# Altium integrated library Linear Technology Power Management Energy Harvesting.IntLib: 169 symbols (part 12 of 13)
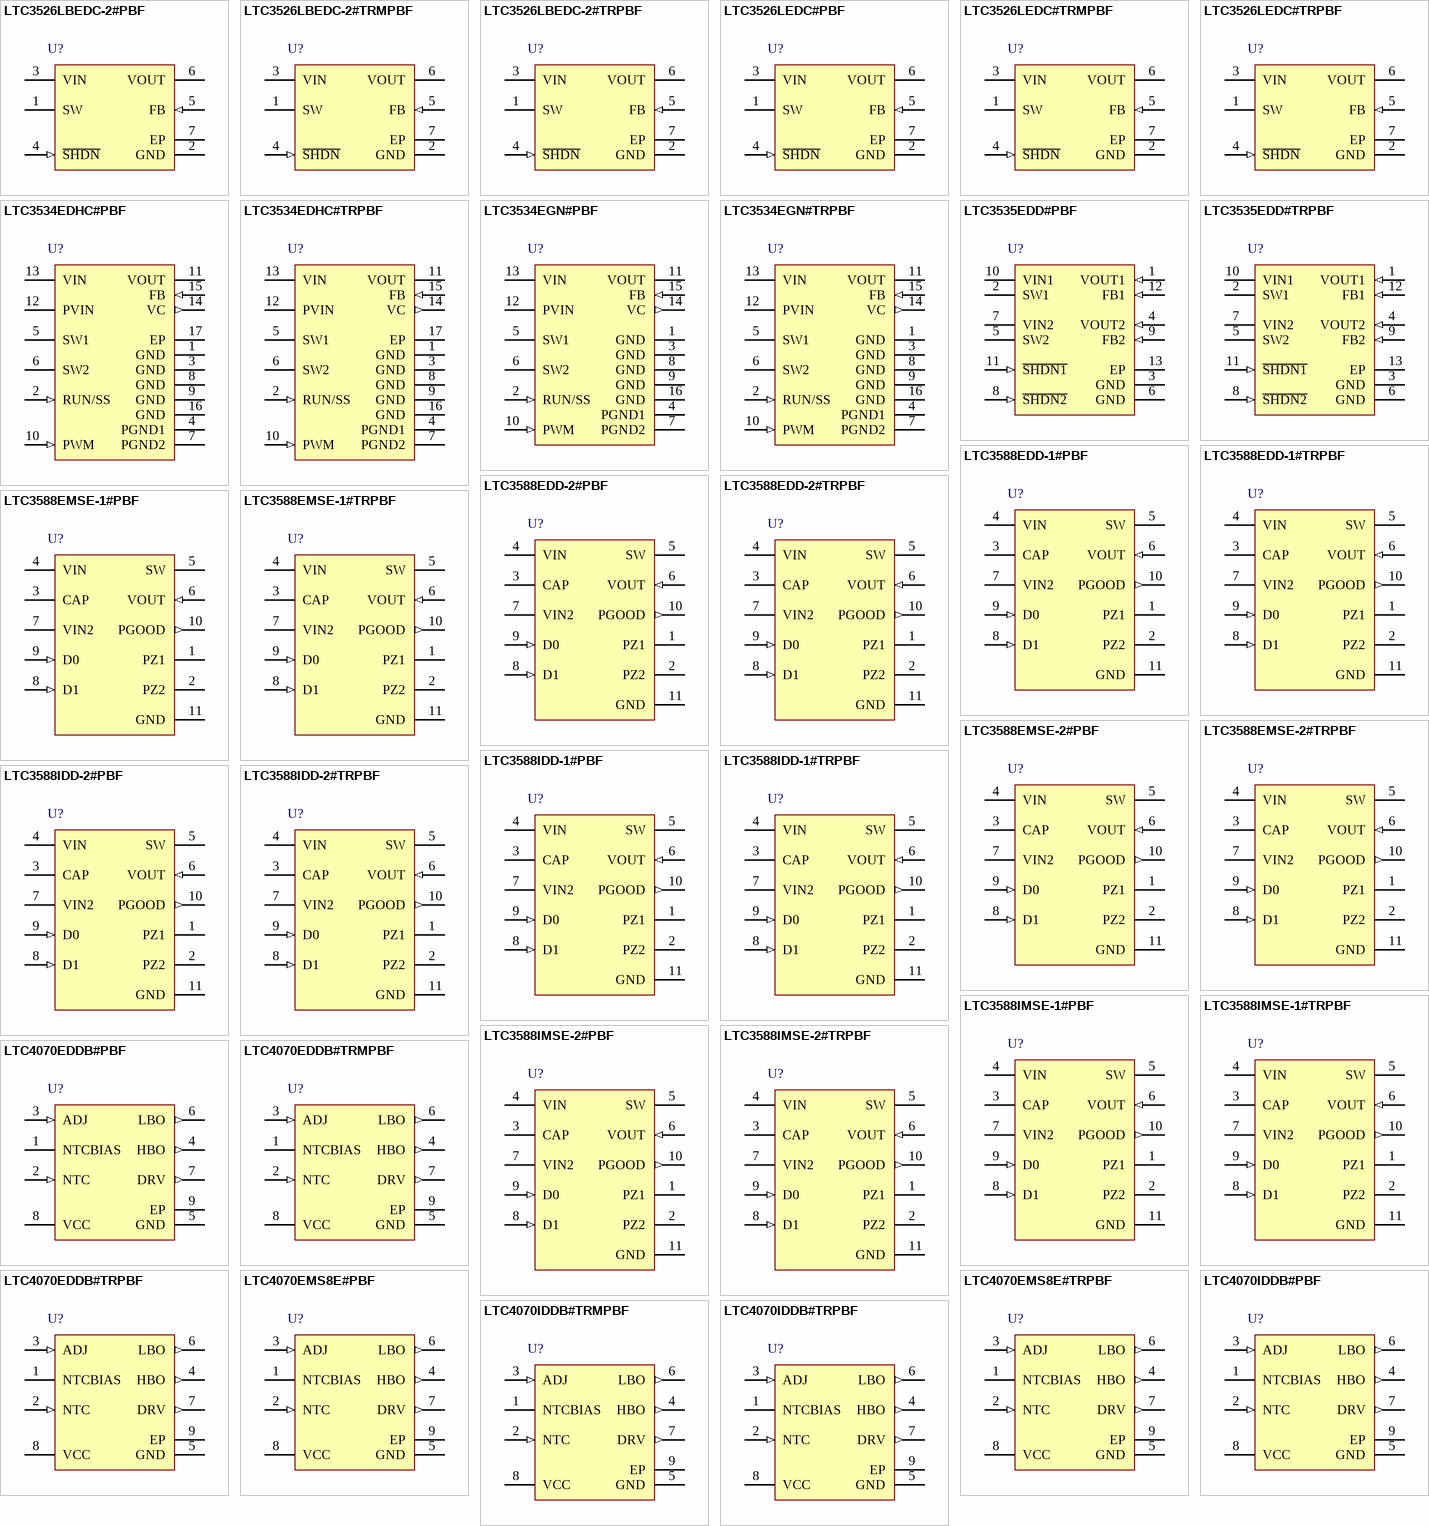
[diagram p16: symbols LTC3526LBEDC-2#PBF to LTC4070IDDB#TRPBF]

## LTC3588IMSE-2#TRPBF
designator U?
Piezoelectric Energy Harvesting Power Supply with 14 V Minimum VIN, 10-pin SOP (MSE-10), -40 to 125 degC, Pb-Free, Tape and Reel; Manufacturer: Linear Technology; PartNumber: LTC3588IMSE-2#TRPBF; Number of Outputs: 1; Topology: Buck; Vin Max(V): 20; Vin Min(V): 14; Vout Max(V): 3.45, 4.1, 4.5, 5; DatasheetVersion: Rev. A; PackageVersion: Rev. I, 05/2013; PackageReference: MSE-10; PackageDescription: 10-Pin Plastic MSOP, Exposed Die Pad, Body 3 x 3 mm, Pitch 0.5 mm; Supplier 1: Digi-Key; Supplier Part Number 1: LTC3588IMSE-2#TRPBF-ND; Energy Source: Piezoelectric; Packing: Tape and Reel; RoHS: TRUE; Mounting Technology: Surface Mount; ComponentLink1Description: Manufacturer URL; ComponentLink1URL: http://www.linear.com/; ComponentLink2Description: Datasheet; ComponentLink2URL: http://cds.linear.com/docs/en/datasheet/35882fa.pdf; ComponentLink3Description: Package Specification; ComponentLink3URL: http://cds.linear.com/docs/en/packaging/05081664_I_MSE.pdf
footprint LT-MSE-10-EDP_N (SOP, 10-Leads, Body 3.1x3.1mm, Pitch 0.5mm, Thermal Pad 1.88x1.68mm, IPC Medium Density)
footprint LT-MSE-10-EDP_L (SOP, 10-Leads, Body 3.1x3.1mm, Pitch 0.5mm, Thermal Pad 1.88x1.68mm, IPC High Density)
footprint LT-MSE-10-EDP_M (SOP, 10-Leads, Body 3.1x3.1mm, Pitch 0.5mm, Thermal Pad 1.88x1.68mm, IPC Low Density)
pins: 1 PZ1 (power) "Input connection for piezoelectric element or other AC source (used in conjunction with PZ2).", 2 PZ2 (power) "Input connection for piezoelectric element or other AC source (used in conjunction with PZ1).", 3 CAP "Internal rail referenced to VIN to serve as gate drive for buck PMOS switch. A 1uF capacitor should be connected between CAP and VIN. This pin is not intended for use as an external system rail.", 4 VIN (power) "Rectified Input Voltage. A capacitor on this pin serves as an energy reservoir and input supply for the buck regulator. The VIN voltage is internally clamped to a maximum of 20V (typical).", 5 SW (power) "Switch Pin for the Buck Switching Regulator. A 22uH or larger inductor should be connected from SW to VOUT.", 6 VOUT (in) "Sense pin used to monitor the output voltage and adjust it through internal feedback.", 7 VIN2 (power) "Internal low voltage rail to serve as gate drive for buck NMOS switch. Also serves as a logic high rail for output voltage select bits D0 and D1. A 4.7uF capacitor should be connected from VIN2 to GND. This pin is not (See Datasheet)", 8 D1 (in) "Output Voltage Select Bit. D1 should be tied high to VIN2 or low to GND to select desired VOUT (see Table 1).", 9 D0 (in) "Output Voltage Select Bit. D0 should be tied high to VIN2 or low to GND to select desired VOUT (see Table 1).", 10 PGOOD (out) "Power good output is logic high when VOUT is above 92% of the target value. The logic high is referenced to the VOUT rail.", 11 GND (power) "Ground. The Exposed Pad should be connected to a continuous ground plane on the second layer of the printed circuit board by several vias directly under the LTC3588-2."

## LTC4070EDDB#PBF
designator U?
Li-Ion / Polymer Shunt Battery Charger System, 8-pin SON (DDB-8), -40 to 125 degC, Pb-Free; Manufacturer: Linear Technology; PartNumber: LTC4070EDDB#PBF; Number of Outputs: 1; DatasheetVersion: Rev. E; PackageVersion: Rev. B, 06/2010; PackageReference: DDB-8; PackageDescription: 8-Pin Plastic DFN, Body 3 x 2 mm, Pitch 0.5 mm; Supplier 1: Farnell; Supplier Part Number 1: 1801171; Supplier 2: Newark; Supplier Part Number 2: 67R4286; RoHS: TRUE; Topology: Shunt Battery Charger; Mounting Technology: Surface Mount; Code_JEDEC: MO-229; ComponentLink1Description: Manufacturer URL; ComponentLink1URL: http://www.linear.com/; ComponentLink2Description: Datasheet; ComponentLink2URL: http://cds.linear.com/docs/en/datasheet/4070fc.pdf; ComponentLink3Description: Package Specification; ComponentLink3URL: http://cds.linear.com/docs/en/packaging/DFN_8_05-08-1702.pdf
footprint LT-DDB-8_V (SON, 8-Leads, Body 3x2mm, Pitch 0.5mm, Thermal Pad 2.2x0.61mm)
pins: 1 NTCBIAS "NTC Bias Pin. Connect a resistor from NTCBIAS to NTC, and a thermistor from NTC to GND. Float NTCBIAS when not in use. Minimize parasitic capacitance on this pin.", 2 NTC (in) "Input to the Negative Temperature Coefficient Thermistor Monitoring Circuit. The NTC pin connects to a negative temperature coefficient thermistor which is typically co-packaged with the battery to determine the temperature (See Datasheet)", 3 ADJ (in) "Float Voltage Adjust Pin. Connect ADJ to GND to program 4.0V float voltage. Disconnect ADJ to program 4.1V float voltage. Connect ADJ to VCC to program 4.2V float voltage. The float voltage is also adjusted by the NTC (See Datasheet)", 4 HBO (out) "High Battery Monitor Output (Active High). HBO is a CMOS output that indicates that the battery is almost fully charged and current is being shunted away from BAT. This pin is driven high when VCC rises to within VHBTH of (See Datasheet)", 5 GND (power) "Ground. The exposed package pad must be connected to PCB ground for rated thermal performance.", 6 LBO (out) "Low Battery Monitor Output (Active High). LBO is a CMOS output that indicates when the battery is discharged below 3.2V or rises above 3.5V. This pin is driven high if VCC < VLBTH, and is driven low if VCC > (VLBTH + VLBHY).", 7 DRV (out) "External Drive Output. Connect to the gate of an external PFET to increase shunt current for applications which require more than 50mA charge current. Minimize capacitance and leakage current on this pin. When not in use, (See Datasheet)", 8 VCC (power) "Input Supply Pin. The input supply voltage is regulated to 4.0V, 4.1V, or 4.2V depending on the ADJ pin state (see the ADJ pin description for more detail). This pin can sink up to 50mA in order to keep the voltage (See Datasheet)", 9 EP (power)

## LTC4070EDDB#TRMPBF
designator U?
Li-Ion / Polymer Shunt Battery Charger System, 8-pin SON (DDB-8), -40 to 125 degC, Pb-Free, Mini Tape and Reel; Manufacturer: Linear Technology; PartNumber: LTC4070EDDB#TRMPBF; Number of Outputs: 1; DatasheetVersion: Rev. E; PackageVersion: Rev. B, 06/2010; PackageReference: DDB-8; PackageDescription: 8-Pin Plastic DFN, Body 3 x 2 mm, Pitch 0.5 mm; Supplier 1: Digi-Key; Supplier Part Number 1: LTC4070EDDB#TRMPBFTR-ND; Supplier 2: Digi-Key; Supplier Part Number 2: LTC4070EDDB#TRMPBFCT-ND; Supplier 3: Digi-Key; Supplier Part Number 3: LTC4070EDDB#TRMPBFDKR-ND; Packing: Mini Tape and Reel; RoHS: TRUE; Topology: Shunt Battery Charger; Mounting Technology: Surface Mount; Code_JEDEC: MO-229; ComponentLink1Description: Manufacturer URL; ComponentLink1URL: http://www.linear.com/; ComponentLink2Description: Datasheet; ComponentLink2URL: http://cds.linear.com/docs/en/datasheet/4070fc.pdf; ComponentLink3Description: Package Specification; ComponentLink3URL: http://cds.linear.com/docs/en/packaging/DFN_8_05-08-1702.pdf
footprint LT-DDB-8_V (SON, 8-Leads, Body 3x2mm, Pitch 0.5mm, Thermal Pad 2.2x0.61mm)
pins: 1 NTCBIAS "NTC Bias Pin. Connect a resistor from NTCBIAS to NTC, and a thermistor from NTC to GND. Float NTCBIAS when not in use. Minimize parasitic capacitance on this pin.", 2 NTC (in) "Input to the Negative Temperature Coefficient Thermistor Monitoring Circuit. The NTC pin connects to a negative temperature coefficient thermistor which is typically co-packaged with the battery to determine the temperature (See Datasheet)", 3 ADJ (in) "Float Voltage Adjust Pin. Connect ADJ to GND to program 4.0V float voltage. Disconnect ADJ to program 4.1V float voltage. Connect ADJ to VCC to program 4.2V float voltage. The float voltage is also adjusted by the NTC (See Datasheet)", 4 HBO (out) "High Battery Monitor Output (Active High). HBO is a CMOS output that indicates that the battery is almost fully charged and current is being shunted away from BAT. This pin is driven high when VCC rises to within VHBTH of (See Datasheet)", 5 GND (power) "Ground. The exposed package pad must be connected to PCB ground for rated thermal performance.", 6 LBO (out) "Low Battery Monitor Output (Active High). LBO is a CMOS output that indicates when the battery is discharged below 3.2V or rises above 3.5V. This pin is driven high if VCC < VLBTH, and is driven low if VCC > (VLBTH + VLBHY).", 7 DRV (out) "External Drive Output. Connect to the gate of an external PFET to increase shunt current for applications which require more than 50mA charge current. Minimize capacitance and leakage current on this pin. When not in use, (See Datasheet)", 8 VCC (power) "Input Supply Pin. The input supply voltage is regulated to 4.0V, 4.1V, or 4.2V depending on the ADJ pin state (see the ADJ pin description for more detail). This pin can sink up to 50mA in order to keep the voltage (See Datasheet)", 9 EP (power)

## LTC4070EDDB#TRPBF
designator U?
Li-Ion / Polymer Shunt Battery Charger System, 8-pin SON (DDB-8), -40 to 125 degC, Pb-Free, Tape and Reel; Manufacturer: Linear Technology; PartNumber: LTC4070EDDB#TRPBF; Number of Outputs: 1; DatasheetVersion: Rev. E; PackageVersion: Rev. B, 06/2010; PackageReference: DDB-8; PackageDescription: 8-Pin Plastic DFN, Body 3 x 2 mm, Pitch 0.5 mm; Supplier 1: Digi-Key; Supplier Part Number 1: LTC4070EDDB#TRPBF-ND; Packing: Tape and Reel; RoHS: TRUE; Topology: Shunt Battery Charger; Mounting Technology: Surface Mount; Code_JEDEC: MO-229; ComponentLink1Description: Manufacturer URL; ComponentLink1URL: http://www.linear.com/; ComponentLink2Description: Datasheet; ComponentLink2URL: http://cds.linear.com/docs/en/datasheet/4070fc.pdf; ComponentLink3Description: Package Specification; ComponentLink3URL: http://cds.linear.com/docs/en/packaging/DFN_8_05-08-1702.pdf
footprint LT-DDB-8_V (SON, 8-Leads, Body 3x2mm, Pitch 0.5mm, Thermal Pad 2.2x0.61mm)
pins: 1 NTCBIAS "NTC Bias Pin. Connect a resistor from NTCBIAS to NTC, and a thermistor from NTC to GND. Float NTCBIAS when not in use. Minimize parasitic capacitance on this pin.", 2 NTC (in) "Input to the Negative Temperature Coefficient Thermistor Monitoring Circuit. The NTC pin connects to a negative temperature coefficient thermistor which is typically co-packaged with the battery to determine the temperature (See Datasheet)", 3 ADJ (in) "Float Voltage Adjust Pin. Connect ADJ to GND to program 4.0V float voltage. Disconnect ADJ to program 4.1V float voltage. Connect ADJ to VCC to program 4.2V float voltage. The float voltage is also adjusted by the NTC (See Datasheet)", 4 HBO (out) "High Battery Monitor Output (Active High). HBO is a CMOS output that indicates that the battery is almost fully charged and current is being shunted away from BAT. This pin is driven high when VCC rises to within VHBTH of (See Datasheet)", 5 GND (power) "Ground. The exposed package pad must be connected to PCB ground for rated thermal performance.", 6 LBO (out) "Low Battery Monitor Output (Active High). LBO is a CMOS output that indicates when the battery is discharged below 3.2V or rises above 3.5V. This pin is driven high if VCC < VLBTH, and is driven low if VCC > (VLBTH + VLBHY).", 7 DRV (out) "External Drive Output. Connect to the gate of an external PFET to increase shunt current for applications which require more than 50mA charge current. Minimize capacitance and leakage current on this pin. When not in use, (See Datasheet)", 8 VCC (power) "Input Supply Pin. The input supply voltage is regulated to 4.0V, 4.1V, or 4.2V depending on the ADJ pin state (see the ADJ pin description for more detail). This pin can sink up to 50mA in order to keep the voltage (See Datasheet)", 9 EP (power)

## LTC4070EMS8E#PBF
designator U?
Li-Ion / Polymer Shunt Battery Charger System, 8-pin SOP (MS8E-8), -40 to 125 degC, Pb-Free; Manufacturer: Linear Technology; PartNumber: LTC4070EMS8E#PBF; Number of Outputs: 1; DatasheetVersion: Rev. E; PackageVersion: Rev. E; PackageReference: MS8E-8; PackageDescription: 8-Pin Plastic MSOP, Exposed Die Pad, Body 3 x 3 mm, Pitch 0.65 mm; Supplier 1: Digi-Key; Supplier Part Number 1: LTC4070EMS8E#PBF-ND; Supplier 2: Farnell; Supplier Part Number 2: 1839141; Supplier 3: Newark; Supplier Part Number 3: 67R4287; RoHS: TRUE; Topology: Shunt Battery Charger; Mounting Technology: Surface Mount; ComponentLink1Description: Manufacturer URL; ComponentLink1URL: http://www.linear.com/; ComponentLink2Description: Datasheet; ComponentLink2URL: http://cds.linear.com/docs/en/datasheet/4070fc.pdf; ComponentLink3Description: Package Specification; ComponentLink3URL: http://cds.linear.com/docs/en/datasheet/4070fc.pdf
footprint LT-MS8E-8-2060X1830TP_N (SOP, 8-Leads, Body 3.1x3.1mm, Pitch 0.65mm, Thermal Pad 2.162x1.932mm, IPC Medium Density)
footprint LT-MS8E-8-2060X1830TP_L (SOP, 8-Leads, Body 3.1x3.1mm, Pitch 0.65mm, Thermal Pad 2.162x1.932mm, IPC High Density)
footprint LT-MS8E-8-2060X1830TP_M (SOP, 8-Leads, Body 3.1x3.1mm, Pitch 0.65mm, Thermal Pad 2.162x1.932mm, IPC Low Density)
pins: 1 NTCBIAS "NTC Bias Pin. Connect a resistor from NTCBIAS to NTC, and a thermistor from NTC to GND. Float NTCBIAS when not in use. Minimize parasitic capacitance on this pin.", 2 NTC (in) "Input to the Negative Temperature Coefficient Thermistor Monitoring Circuit. The NTC pin connects to a negative temperature coefficient thermistor which is typically co-packaged with the battery to determine the temperature (See Datasheet)", 3 ADJ (in) "Float Voltage Adjust Pin. Connect ADJ to GND to program 4.0V float voltage. Disconnect ADJ to program 4.1V float voltage. Connect ADJ to VCC to program 4.2V float voltage. The float voltage is also adjusted by the NTC (See Datasheet)", 4 HBO (out) "High Battery Monitor Output (Active High). HBO is a CMOS output that indicates that the battery is almost fully charged and current is being shunted away from BAT. This pin is driven high when VCC rises to within VHBTH of (See Datasheet)", 5 GND (power) "Ground. The exposed package pad must be connected to PCB ground for rated thermal performance.", 6 LBO (out) "Low Battery Monitor Output (Active High). LBO is a CMOS output that indicates when the battery is discharged below 3.2V or rises above 3.5V. This pin is driven high if VCC < VLBTH, and is driven low if VCC > (VLBTH + VLBHY).", 7 DRV (out) "External Drive Output. Connect to the gate of an external PFET to increase shunt current for applications which require more than 50mA charge current. Minimize capacitance and leakage current on this pin. When not in use, (See Datasheet)", 8 VCC (power) "Input Supply Pin. The input supply voltage is regulated to 4.0V, 4.1V, or 4.2V depending on the ADJ pin state (see the ADJ pin description for more detail). This pin can sink up to 50mA in order to keep the voltage (See Datasheet)", 9 EP (power)

## LTC4070EMS8E#TRPBF
designator U?
Li-Ion / Polymer Shunt Battery Charger System, 8-pin SOP (MS8E-8), -40 to 125 degC, Pb-Free, Tape and Reel; Manufacturer: Linear Technology; PartNumber: LTC4070EMS8E#TRPBF; Number of Outputs: 1; DatasheetVersion: Rev. E; PackageVersion: Rev. E; PackageReference: MS8E-8; PackageDescription: 8-Pin Plastic MSOP, Exposed Die Pad, Body 3 x 3 mm, Pitch 0.65 mm; Supplier 1: Digi-Key; Supplier Part Number 1: LTC4070EMS8E#TRPBF-ND; Packing: Tape and Reel; RoHS: TRUE; Topology: Shunt Battery Charger; Mounting Technology: Surface Mount; ComponentLink1Description: Manufacturer URL; ComponentLink1URL: http://www.linear.com/; ComponentLink2Description: Datasheet; ComponentLink2URL: http://cds.linear.com/docs/en/datasheet/4070fc.pdf; ComponentLink3Description: Package Specification; ComponentLink3URL: http://cds.linear.com/docs/en/datasheet/4070fc.pdf
footprint LT-MS8E-8-2060X1830TP_N (SOP, 8-Leads, Body 3.1x3.1mm, Pitch 0.65mm, Thermal Pad 2.162x1.932mm, IPC Medium Density)
footprint LT-MS8E-8-2060X1830TP_L (SOP, 8-Leads, Body 3.1x3.1mm, Pitch 0.65mm, Thermal Pad 2.162x1.932mm, IPC High Density)
footprint LT-MS8E-8-2060X1830TP_M (SOP, 8-Leads, Body 3.1x3.1mm, Pitch 0.65mm, Thermal Pad 2.162x1.932mm, IPC Low Density)
pins: 1 NTCBIAS "NTC Bias Pin. Connect a resistor from NTCBIAS to NTC, and a thermistor from NTC to GND. Float NTCBIAS when not in use. Minimize parasitic capacitance on this pin.", 2 NTC (in) "Input to the Negative Temperature Coefficient Thermistor Monitoring Circuit. The NTC pin connects to a negative temperature coefficient thermistor which is typically co-packaged with the battery to determine the temperature (See Datasheet)", 3 ADJ (in) "Float Voltage Adjust Pin. Connect ADJ to GND to program 4.0V float voltage. Disconnect ADJ to program 4.1V float voltage. Connect ADJ to VCC to program 4.2V float voltage. The float voltage is also adjusted by the NTC (See Datasheet)", 4 HBO (out) "High Battery Monitor Output (Active High). HBO is a CMOS output that indicates that the battery is almost fully charged and current is being shunted away from BAT. This pin is driven high when VCC rises to within VHBTH of (See Datasheet)", 5 GND (power) "Ground. The exposed package pad must be connected to PCB ground for rated thermal performance.", 6 LBO (out) "Low Battery Monitor Output (Active High). LBO is a CMOS output that indicates when the battery is discharged below 3.2V or rises above 3.5V. This pin is driven high if VCC < VLBTH, and is driven low if VCC > (VLBTH + VLBHY).", 7 DRV (out) "External Drive Output. Connect to the gate of an external PFET to increase shunt current for applications which require more than 50mA charge current. Minimize capacitance and leakage current on this pin. When not in use, (See Datasheet)", 8 VCC (power) "Input Supply Pin. The input supply voltage is regulated to 4.0V, 4.1V, or 4.2V depending on the ADJ pin state (see the ADJ pin description for more detail). This pin can sink up to 50mA in order to keep the voltage (See Datasheet)", 9 EP (power)

## LTC4070IDDB#PBF
designator U?
Li-Ion / Polymer Shunt Battery Charger System, 8-pin SON (DDB-8), -40 to 125 degC, Pb-Free; Manufacturer: Linear Technology; PartNumber: LTC4070IDDB#PBF; Number of Outputs: 1; DatasheetVersion: Rev. E; PackageVersion: Rev. B, 06/2010; PackageReference: DDB-8; PackageDescription: 8-Pin Plastic DFN, Body 3 x 2 mm, Pitch 0.5 mm; RoHS: TRUE; Topology: Shunt Battery Charger; Mounting Technology: Surface Mount; Code_JEDEC: MO-229; ComponentLink1Description: Manufacturer URL; ComponentLink1URL: http://www.linear.com/; ComponentLink2Description: Datasheet; ComponentLink2URL: http://cds.linear.com/docs/en/datasheet/4070fc.pdf; ComponentLink3Description: Package Specification; ComponentLink3URL: http://cds.linear.com/docs/en/packaging/DFN_8_05-08-1702.pdf
footprint LT-DDB-8_V (SON, 8-Leads, Body 3x2mm, Pitch 0.5mm, Thermal Pad 2.2x0.61mm)
pins: 1 NTCBIAS "NTC Bias Pin. Connect a resistor from NTCBIAS to NTC, and a thermistor from NTC to GND. Float NTCBIAS when not in use. Minimize parasitic capacitance on this pin.", 2 NTC (in) "Input to the Negative Temperature Coefficient Thermistor Monitoring Circuit. The NTC pin connects to a negative temperature coefficient thermistor which is typically co-packaged with the battery to determine the temperature (See Datasheet)", 3 ADJ (in) "Float Voltage Adjust Pin. Connect ADJ to GND to program 4.0V float voltage. Disconnect ADJ to program 4.1V float voltage. Connect ADJ to VCC to program 4.2V float voltage. The float voltage is also adjusted by the NTC (See Datasheet)", 4 HBO (out) "High Battery Monitor Output (Active High). HBO is a CMOS output that indicates that the battery is almost fully charged and current is being shunted away from BAT. This pin is driven high when VCC rises to within VHBTH of (See Datasheet)", 5 GND (power) "Ground. The exposed package pad must be connected to PCB ground for rated thermal performance.", 6 LBO (out) "Low Battery Monitor Output (Active High). LBO is a CMOS output that indicates when the battery is discharged below 3.2V or rises above 3.5V. This pin is driven high if VCC < VLBTH, and is driven low if VCC > (VLBTH + VLBHY).", 7 DRV (out) "External Drive Output. Connect to the gate of an external PFET to increase shunt current for applications which require more than 50mA charge current. Minimize capacitance and leakage current on this pin. When not in use, (See Datasheet)", 8 VCC (power) "Input Supply Pin. The input supply voltage is regulated to 4.0V, 4.1V, or 4.2V depending on the ADJ pin state (see the ADJ pin description for more detail). This pin can sink up to 50mA in order to keep the voltage (See Datasheet)", 9 EP (power)

## LTC4070IDDB#TRMPBF
designator U?
Li-Ion / Polymer Shunt Battery Charger System, 8-pin SON (DDB-8), -40 to 125 degC, Pb-Free, Mini Tape and Reel; Manufacturer: Linear Technology; PartNumber: LTC4070IDDB#TRMPBF; Number of Outputs: 1; DatasheetVersion: Rev. E; PackageVersion: Rev. B, 06/2010; PackageReference: DDB-8; PackageDescription: 8-Pin Plastic DFN, Body 3 x 2 mm, Pitch 0.5 mm; Supplier 1: Digi-Key; Supplier Part Number 1: LTC4070IDDB#TRMPBF-ND; Packing: Mini Tape and Reel; RoHS: TRUE; Topology: Shunt Battery Charger; Mounting Technology: Surface Mount; Code_JEDEC: MO-229; ComponentLink1Description: Manufacturer URL; ComponentLink1URL: http://www.linear.com/; ComponentLink2Description: Datasheet; ComponentLink2URL: http://cds.linear.com/docs/en/datasheet/4070fc.pdf; ComponentLink3Description: Package Specification; ComponentLink3URL: http://cds.linear.com/docs/en/packaging/DFN_8_05-08-1702.pdf
footprint LT-DDB-8_V (SON, 8-Leads, Body 3x2mm, Pitch 0.5mm, Thermal Pad 2.2x0.61mm)
pins: 1 NTCBIAS "NTC Bias Pin. Connect a resistor from NTCBIAS to NTC, and a thermistor from NTC to GND. Float NTCBIAS when not in use. Minimize parasitic capacitance on this pin.", 2 NTC (in) "Input to the Negative Temperature Coefficient Thermistor Monitoring Circuit. The NTC pin connects to a negative temperature coefficient thermistor which is typically co-packaged with the battery to determine the temperature (See Datasheet)", 3 ADJ (in) "Float Voltage Adjust Pin. Connect ADJ to GND to program 4.0V float voltage. Disconnect ADJ to program 4.1V float voltage. Connect ADJ to VCC to program 4.2V float voltage. The float voltage is also adjusted by the NTC (See Datasheet)", 4 HBO (out) "High Battery Monitor Output (Active High). HBO is a CMOS output that indicates that the battery is almost fully charged and current is being shunted away from BAT. This pin is driven high when VCC rises to within VHBTH of (See Datasheet)", 5 GND (power) "Ground. The exposed package pad must be connected to PCB ground for rated thermal performance.", 6 LBO (out) "Low Battery Monitor Output (Active High). LBO is a CMOS output that indicates when the battery is discharged below 3.2V or rises above 3.5V. This pin is driven high if VCC < VLBTH, and is driven low if VCC > (VLBTH + VLBHY).", 7 DRV (out) "External Drive Output. Connect to the gate of an external PFET to increase shunt current for applications which require more than 50mA charge current. Minimize capacitance and leakage current on this pin. When not in use, (See Datasheet)", 8 VCC (power) "Input Supply Pin. The input supply voltage is regulated to 4.0V, 4.1V, or 4.2V depending on the ADJ pin state (see the ADJ pin description for more detail). This pin can sink up to 50mA in order to keep the voltage (See Datasheet)", 9 EP (power)

## LTC4070IDDB#TRPBF
designator U?
Li-Ion / Polymer Shunt Battery Charger System, 8-pin SON (DDB-8), -40 to 125 degC, Pb-Free, Tape and Reel; Manufacturer: Linear Technology; PartNumber: LTC4070IDDB#TRPBF; Number of Outputs: 1; DatasheetVersion: Rev. E; PackageVersion: Rev. B, 06/2010; PackageReference: DDB-8; PackageDescription: 8-Pin Plastic DFN, Body 3 x 2 mm, Pitch 0.5 mm; Supplier 1: Digi-Key; Supplier Part Number 1: LTC4070IDDB#TRPBF-ND; Packing: Tape and Reel; RoHS: TRUE; Topology: Shunt Battery Charger; Mounting Technology: Surface Mount; Code_JEDEC: MO-229; ComponentLink1Description: Manufacturer URL; ComponentLink1URL: http://www.linear.com/; ComponentLink2Description: Datasheet; ComponentLink2URL: http://cds.linear.com/docs/en/datasheet/4070fc.pdf; ComponentLink3Description: Package Specification; ComponentLink3URL: http://cds.linear.com/docs/en/packaging/DFN_8_05-08-1702.pdf
footprint LT-DDB-8_V (SON, 8-Leads, Body 3x2mm, Pitch 0.5mm, Thermal Pad 2.2x0.61mm)
pins: 1 NTCBIAS "NTC Bias Pin. Connect a resistor from NTCBIAS to NTC, and a thermistor from NTC to GND. Float NTCBIAS when not in use. Minimize parasitic capacitance on this pin.", 2 NTC (in) "Input to the Negative Temperature Coefficient Thermistor Monitoring Circuit. The NTC pin connects to a negative temperature coefficient thermistor which is typically co-packaged with the battery to determine the temperature (See Datasheet)", 3 ADJ (in) "Float Voltage Adjust Pin. Connect ADJ to GND to program 4.0V float voltage. Disconnect ADJ to program 4.1V float voltage. Connect ADJ to VCC to program 4.2V float voltage. The float voltage is also adjusted by the NTC (See Datasheet)", 4 HBO (out) "High Battery Monitor Output (Active High). HBO is a CMOS output that indicates that the battery is almost fully charged and current is being shunted away from BAT. This pin is driven high when VCC rises to within VHBTH of (See Datasheet)", 5 GND (power) "Ground. The exposed package pad must be connected to PCB ground for rated thermal performance.", 6 LBO (out) "Low Battery Monitor Output (Active High). LBO is a CMOS output that indicates when the battery is discharged below 3.2V or rises above 3.5V. This pin is driven high if VCC < VLBTH, and is driven low if VCC > (VLBTH + VLBHY).", 7 DRV (out) "External Drive Output. Connect to the gate of an external PFET to increase shunt current for applications which require more than 50mA charge current. Minimize capacitance and leakage current on this pin. When not in use, (See Datasheet)", 8 VCC (power) "Input Supply Pin. The input supply voltage is regulated to 4.0V, 4.1V, or 4.2V depending on the ADJ pin state (see the ADJ pin description for more detail). This pin can sink up to 50mA in order to keep the voltage (See Datasheet)", 9 EP (power)

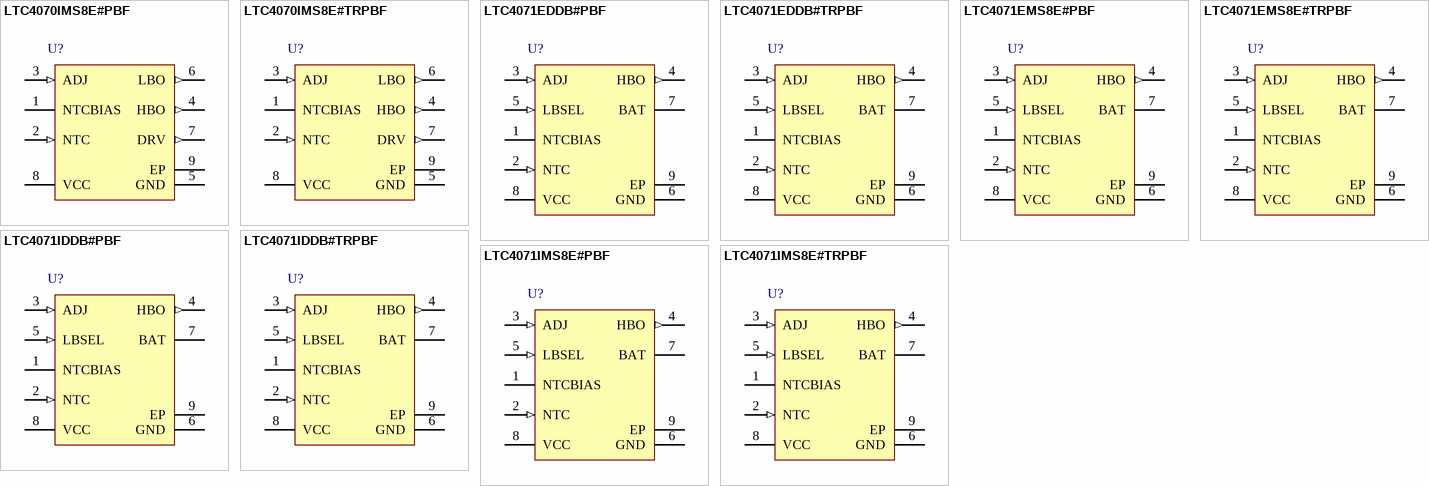
[diagram p5: symbols LTC4070IMS8E#PBF to LTC4071IMS8E#TRPBF]

## LTC4070IMS8E#PBF
designator U?
Li-Ion / Polymer Shunt Battery Charger System, 8-pin SOP (MS8E-8), -40 to 125 degC, Pb-Free; Manufacturer: Linear Technology; PartNumber: LTC4070IMS8E#PBF; Number of Outputs: 1; DatasheetVersion: Rev. E; PackageVersion: Rev. E; PackageReference: MS8E-8; PackageDescription: 8-Pin Plastic MSOP, Exposed Die Pad, Body 3 x 3 mm, Pitch 0.65 mm; Supplier 1: Digi-Key; Supplier Part Number 1: LTC4070IMS8E#PBF-ND; RoHS: TRUE; Topology: Shunt Battery Charger; Mounting Technology: Surface Mount; ComponentLink1Description: Manufacturer URL; ComponentLink1URL: http://www.linear.com/; ComponentLink2Description: Datasheet; ComponentLink2URL: http://cds.linear.com/docs/en/datasheet/4070fc.pdf; ComponentLink3Description: Package Specification; ComponentLink3URL: http://cds.linear.com/docs/en/datasheet/4070fc.pdf
footprint LT-MS8E-8-2060X1830TP_N (SOP, 8-Leads, Body 3.1x3.1mm, Pitch 0.65mm, Thermal Pad 2.162x1.932mm, IPC Medium Density)
footprint LT-MS8E-8-2060X1830TP_L (SOP, 8-Leads, Body 3.1x3.1mm, Pitch 0.65mm, Thermal Pad 2.162x1.932mm, IPC High Density)
footprint LT-MS8E-8-2060X1830TP_M (SOP, 8-Leads, Body 3.1x3.1mm, Pitch 0.65mm, Thermal Pad 2.162x1.932mm, IPC Low Density)
pins: 1 NTCBIAS "NTC Bias Pin. Connect a resistor from NTCBIAS to NTC, and a thermistor from NTC to GND. Float NTCBIAS when not in use. Minimize parasitic capacitance on this pin.", 2 NTC (in) "Input to the Negative Temperature Coefficient Thermistor Monitoring Circuit. The NTC pin connects to a negative temperature coefficient thermistor which is typically co-packaged with the battery to determine the temperature (See Datasheet)", 3 ADJ (in) "Float Voltage Adjust Pin. Connect ADJ to GND to program 4.0V float voltage. Disconnect ADJ to program 4.1V float voltage. Connect ADJ to VCC to program 4.2V float voltage. The float voltage is also adjusted by the NTC (See Datasheet)", 4 HBO (out) "High Battery Monitor Output (Active High). HBO is a CMOS output that indicates that the battery is almost fully charged and current is being shunted away from BAT. This pin is driven high when VCC rises to within VHBTH of (See Datasheet)", 5 GND (power) "Ground. The exposed package pad must be connected to PCB ground for rated thermal performance.", 6 LBO (out) "Low Battery Monitor Output (Active High). LBO is a CMOS output that indicates when the battery is discharged below 3.2V or rises above 3.5V. This pin is driven high if VCC < VLBTH, and is driven low if VCC > (VLBTH + VLBHY).", 7 DRV (out) "External Drive Output. Connect to the gate of an external PFET to increase shunt current for applications which require more than 50mA charge current. Minimize capacitance and leakage current on this pin. When not in use, (See Datasheet)", 8 VCC (power) "Input Supply Pin. The input supply voltage is regulated to 4.0V, 4.1V, or 4.2V depending on the ADJ pin state (see the ADJ pin description for more detail). This pin can sink up to 50mA in order to keep the voltage (See Datasheet)", 9 EP (power)

## LTC4070IMS8E#TRPBF
designator U?
Li-Ion / Polymer Shunt Battery Charger System, 8-pin SOP (MS8E-8), -40 to 125 degC, Pb-Free, Tape and Reel; Manufacturer: Linear Technology; PartNumber: LTC4070IMS8E#TRPBF; Number of Outputs: 1; DatasheetVersion: Rev. E; PackageVersion: Rev. E; PackageReference: MS8E-8; PackageDescription: 8-Pin Plastic MSOP, Exposed Die Pad, Body 3 x 3 mm, Pitch 0.65 mm; Supplier 1: Digi-Key; Supplier Part Number 1: LTC4070IMS8E#TRPBF-ND; Packing: Tape and Reel; RoHS: TRUE; Topology: Shunt Battery Charger; Mounting Technology: Surface Mount; ComponentLink1Description: Manufacturer URL; ComponentLink1URL: http://www.linear.com/; ComponentLink2Description: Datasheet; ComponentLink2URL: http://cds.linear.com/docs/en/datasheet/4070fc.pdf; ComponentLink3Description: Package Specification; ComponentLink3URL: http://cds.linear.com/docs/en/datasheet/4070fc.pdf
footprint LT-MS8E-8-2060X1830TP_N (SOP, 8-Leads, Body 3.1x3.1mm, Pitch 0.65mm, Thermal Pad 2.162x1.932mm, IPC Medium Density)
footprint LT-MS8E-8-2060X1830TP_L (SOP, 8-Leads, Body 3.1x3.1mm, Pitch 0.65mm, Thermal Pad 2.162x1.932mm, IPC High Density)
footprint LT-MS8E-8-2060X1830TP_M (SOP, 8-Leads, Body 3.1x3.1mm, Pitch 0.65mm, Thermal Pad 2.162x1.932mm, IPC Low Density)
pins: 1 NTCBIAS "NTC Bias Pin. Connect a resistor from NTCBIAS to NTC, and a thermistor from NTC to GND. Float NTCBIAS when not in use. Minimize parasitic capacitance on this pin.", 2 NTC (in) "Input to the Negative Temperature Coefficient Thermistor Monitoring Circuit. The NTC pin connects to a negative temperature coefficient thermistor which is typically co-packaged with the battery to determine the temperature (See Datasheet)", 3 ADJ (in) "Float Voltage Adjust Pin. Connect ADJ to GND to program 4.0V float voltage. Disconnect ADJ to program 4.1V float voltage. Connect ADJ to VCC to program 4.2V float voltage. The float voltage is also adjusted by the NTC (See Datasheet)", 4 HBO (out) "High Battery Monitor Output (Active High). HBO is a CMOS output that indicates that the battery is almost fully charged and current is being shunted away from BAT. This pin is driven high when VCC rises to within VHBTH of (See Datasheet)", 5 GND (power) "Ground. The exposed package pad must be connected to PCB ground for rated thermal performance.", 6 LBO (out) "Low Battery Monitor Output (Active High). LBO is a CMOS output that indicates when the battery is discharged below 3.2V or rises above 3.5V. This pin is driven high if VCC < VLBTH, and is driven low if VCC > (VLBTH + VLBHY).", 7 DRV (out) "External Drive Output. Connect to the gate of an external PFET to increase shunt current for applications which require more than 50mA charge current. Minimize capacitance and leakage current on this pin. When not in use, (See Datasheet)", 8 VCC (power) "Input Supply Pin. The input supply voltage is regulated to 4.0V, 4.1V, or 4.2V depending on the ADJ pin state (see the ADJ pin description for more detail). This pin can sink up to 50mA in order to keep the voltage (See Datasheet)", 9 EP (power)

## LTC4071EDDB#PBF
designator U?
Li-Ion / Polymer Shunt Battery Charger System with Low Battery Disconnect, 8-pin SON (DDB-8), -40 to 125 degC, Pb-Free; Manufacturer: Linear Technology; PartNumber: LTC4071EDDB#PBF; Number of Outputs: 1; DatasheetVersion: Rev. C; PackageVersion: Rev. B, 06/2010; PackageReference: DDB-8; PackageDescription: 8-Pin Plastic DFN, Body 3 x 2 mm, Pitch 0.5 mm; RoHS: TRUE; Topology: Shunt Battery Charger; Mounting Technology: Surface Mount; Code_JEDEC: MO-229; ComponentLink1Description: Manufacturer URL; ComponentLink1URL: http://www.linear.com/; ComponentLink2Description: Datasheet; ComponentLink2URL: http://cds.linear.com/docs/en/datasheet/4071fc.pdf; ComponentLink3Description: Package Specification; ComponentLink3URL: http://cds.linear.com/docs/en/packaging/DFN_8_05-08-1702.pdf
footprint LT-DDB-8_V (SON, 8-Leads, Body 3x2mm, Pitch 0.5mm, Thermal Pad 2.2x0.61mm)
pins: 1 NTCBIAS "NTC Bias Pin. Connect a resistor from NTCBIAS to NTC, and a thermistor from NTC to GND. Float NTCBIAS when not in use. Minimize parasitic capacitance on this pin.", 2 NTC (in) "Input to the Negative Temperature Coefficient Thermistor Monitoring Circuit. The NTC pin connects to a negative temperature coefficient thermistor which is typically co-packaged with the battery to determine the temperature (See Datasheet)", 3 ADJ (in) "Float Voltage Adjust Pin. Connect ADJ to GND to program 4.0V float voltage. Disconnect ADJ to program 4.1V float voltage. Connect ADJ to VCC to program 4.2V float voltage. The float voltage is also adjusted by the NTC (See Datasheet)", 4 HBO (out) "High Battery Monitor Output (Active High). HBO is a CMOS output that indicates that the battery is almost fully charged and current is being shunted away from BAT. This pin is driven high when VCC rises to within VHBTH of (See Datasheet)", 5 LBSEL (in) "Low Battery Disconnect Select Pin. Connect LBSEL to GND to select a low battery disconnect level of 3.2V, connect LBSEL to VCC to select a low battery disconnect level of 2.7V. Do not float.", 6 GND (power) "Ground. The exposed package pad has no internal electrical connection but must be connected to PCB ground for maximum heat transfer.", 7 BAT (power) "Battery Pin. Battery charge current is sourced from VCC through this pin when an external supply is present. BAT supplies current to VCC from this pin when no other source of power is available. If BAT falls below VLBD this (See Datasheet)", 8 VCC (power) "Input Supply Pin. Attach system load to this pin. The input supply voltage is regulated to 4.0V, 4.1V, or 4.2V depending on the ADJ pin state (see the ADJ pin description for more detail). This pin can sink up to 50mA in (See Datasheet)", 9 EP (power) "Ground. The exposed package pad has no internal electrical connection but must be connected to PCB ground for maximum heat transfer."

## LTC4071EDDB#TRPBF
designator U?
Li-Ion / Polymer Shunt Battery Charger System with Low Battery Disconnect, 8-pin SON (DDB-8), -40 to 125 degC, Pb-Free, Tape and Reel; Manufacturer: Linear Technology; PartNumber: LTC4071EDDB#TRPBF; Number of Outputs: 1; DatasheetVersion: Rev. C; PackageVersion: Rev. B, 06/2010; PackageReference: DDB-8; PackageDescription: 8-Pin Plastic DFN, Body 3 x 2 mm, Pitch 0.5 mm; Supplier 1: Digi-Key; Supplier Part Number 1: LTC4071EDDB#TRPBF-ND; Packing: Tape and Reel; RoHS: TRUE; Topology: Shunt Battery Charger; Mounting Technology: Surface Mount; Code_JEDEC: MO-229; ComponentLink1Description: Manufacturer URL; ComponentLink1URL: http://www.linear.com/; ComponentLink2Description: Datasheet; ComponentLink2URL: http://cds.linear.com/docs/en/datasheet/4071fc.pdf; ComponentLink3Description: Package Specification; ComponentLink3URL: http://cds.linear.com/docs/en/packaging/DFN_8_05-08-1702.pdf
footprint LT-DDB-8_V (SON, 8-Leads, Body 3x2mm, Pitch 0.5mm, Thermal Pad 2.2x0.61mm)
pins: 1 NTCBIAS "NTC Bias Pin. Connect a resistor from NTCBIAS to NTC, and a thermistor from NTC to GND. Float NTCBIAS when not in use. Minimize parasitic capacitance on this pin.", 2 NTC (in) "Input to the Negative Temperature Coefficient Thermistor Monitoring Circuit. The NTC pin connects to a negative temperature coefficient thermistor which is typically co-packaged with the battery to determine the temperature (See Datasheet)", 3 ADJ (in) "Float Voltage Adjust Pin. Connect ADJ to GND to program 4.0V float voltage. Disconnect ADJ to program 4.1V float voltage. Connect ADJ to VCC to program 4.2V float voltage. The float voltage is also adjusted by the NTC (See Datasheet)", 4 HBO (out) "High Battery Monitor Output (Active High). HBO is a CMOS output that indicates that the battery is almost fully charged and current is being shunted away from BAT. This pin is driven high when VCC rises to within VHBTH of (See Datasheet)", 5 LBSEL (in) "Low Battery Disconnect Select Pin. Connect LBSEL to GND to select a low battery disconnect level of 3.2V, connect LBSEL to VCC to select a low battery disconnect level of 2.7V. Do not float.", 6 GND (power) "Ground. The exposed package pad has no internal electrical connection but must be connected to PCB ground for maximum heat transfer.", 7 BAT (power) "Battery Pin. Battery charge current is sourced from VCC through this pin when an external supply is present. BAT supplies current to VCC from this pin when no other source of power is available. If BAT falls below VLBD this (See Datasheet)", 8 VCC (power) "Input Supply Pin. Attach system load to this pin. The input supply voltage is regulated to 4.0V, 4.1V, or 4.2V depending on the ADJ pin state (see the ADJ pin description for more detail). This pin can sink up to 50mA in (See Datasheet)", 9 EP (power) "Ground. The exposed package pad has no internal electrical connection but must be connected to PCB ground for maximum heat transfer."

## LTC4071EMS8E#PBF
designator U?
Li-Ion / Polymer Shunt Battery Charger System with Low Battery Disconnect, 8-pin SOP (MS8E-8), -40 to 125 degC, Pb-Free; Manufacturer: Linear Technology; PartNumber: LTC4071EMS8E#PBF; Number of Outputs: 1; DatasheetVersion: Rev. C; PackageVersion: Rev. F; PackageReference: MS8E-8; PackageDescription: 8-Pin Plastic MSOP, Exposed Die Pad, Body 3 x 3 mm, Pitch 0.65 mm; Supplier 1: Digi-Key; Supplier Part Number 1: LTC4071EMS8E#PBF-ND; Supplier 2: Farnell; Supplier Part Number 2: 1947919; Supplier 3: Newark; Supplier Part Number 3: 13T8411; RoHS: TRUE; Topology: Shunt Battery Charger; Mounting Technology: Surface Mount; ComponentLink1Description: Manufacturer URL; ComponentLink1URL: http://www.linear.com/; ComponentLink2Description: Datasheet; ComponentLink2URL: http://cds.linear.com/docs/en/datasheet/4071fc.pdf; ComponentLink3Description: Package Specification; ComponentLink3URL: http://cds.linear.com/docs/en/datasheet/3080fc.pdf
footprint LT-MS8E-8-1880X1680TP_N (SOP, 8-Leads, Body 3.1x3.1mm, Pitch 0.65mm, Thermal Pad 1.88x1.68mm, IPC Medium Density)
footprint LT-MS8E-8-1880X1680TP_L (SOP, 8-Leads, Body 3.1x3.1mm, Pitch 0.65mm, Thermal Pad 1.88x1.68mm, IPC High Density)
footprint LT-MS8E-8-1880X1680TP_M (SOP, 8-Leads, Body 3.1x3.1mm, Pitch 0.65mm, Thermal Pad 1.88x1.68mm, IPC Low Density)
pins: 1 NTCBIAS "NTC Bias Pin. Connect a resistor from NTCBIAS to NTC, and a thermistor from NTC to GND. Float NTCBIAS when not in use. Minimize parasitic capacitance on this pin.", 2 NTC (in) "Input to the Negative Temperature Coefficient Thermistor Monitoring Circuit. The NTC pin connects to a negative temperature coefficient thermistor which is typically co-packaged with the battery to determine the temperature (See Datasheet)", 3 ADJ (in) "Float Voltage Adjust Pin. Connect ADJ to GND to program 4.0V float voltage. Disconnect ADJ to program 4.1V float voltage. Connect ADJ to VCC to program 4.2V float voltage. The float voltage is also adjusted by the NTC (See Datasheet)", 4 HBO (out) "High Battery Monitor Output (Active High). HBO is a CMOS output that indicates that the battery is almost fully charged and current is being shunted away from BAT. This pin is driven high when VCC rises to within VHBTH of (See Datasheet)", 5 LBSEL (in) "Low Battery Disconnect Select Pin. Connect LBSEL to GND to select a low battery disconnect level of 3.2V, connect LBSEL to VCC to select a low battery disconnect level of 2.7V. Do not float.", 6 GND (power) "Ground. The exposed package pad has no internal electrical connection but must be connected to PCB ground for maximum heat transfer.", 7 BAT (power) "Battery Pin. Battery charge current is sourced from VCC through this pin when an external supply is present. BAT supplies current to VCC from this pin when no other source of power is available. If BAT falls below VLBD this (See Datasheet)", 8 VCC (power) "Input Supply Pin. Attach system load to this pin. The input supply voltage is regulated to 4.0V, 4.1V, or 4.2V depending on the ADJ pin state (see the ADJ pin description for more detail). This pin can sink up to 50mA in (See Datasheet)", 9 EP (power) "Ground. The exposed package pad has no internal electrical connection but must be connected to PCB ground for maximum heat transfer."

## LTC4071EMS8E#TRPBF
designator U?
Li-Ion / Polymer Shunt Battery Charger System with Low Battery Disconnect, 8-pin SOP (MS8E-8), -40 to 125 degC, Pb-Free, Tape and Reel; Manufacturer: Linear Technology; PartNumber: LTC4071EMS8E#TRPBF; Number of Outputs: 1; DatasheetVersion: Rev. C; PackageVersion: Rev. F; PackageReference: MS8E-8; PackageDescription: 8-Pin Plastic MSOP, Exposed Die Pad, Body 3 x 3 mm, Pitch 0.65 mm; Supplier 1: Digi-Key; Supplier Part Number 1: LTC4071EMS8E#TRPBF-ND; Packing: Tape and Reel; RoHS: TRUE; Topology: Shunt Battery Charger; Mounting Technology: Surface Mount; ComponentLink1Description: Manufacturer URL; ComponentLink1URL: http://www.linear.com/; ComponentLink2Description: Datasheet; ComponentLink2URL: http://cds.linear.com/docs/en/datasheet/4071fc.pdf; ComponentLink3Description: Package Specification; ComponentLink3URL: http://cds.linear.com/docs/en/datasheet/3080fc.pdf
footprint LT-MS8E-8-1880X1680TP_N (SOP, 8-Leads, Body 3.1x3.1mm, Pitch 0.65mm, Thermal Pad 1.88x1.68mm, IPC Medium Density)
footprint LT-MS8E-8-1880X1680TP_L (SOP, 8-Leads, Body 3.1x3.1mm, Pitch 0.65mm, Thermal Pad 1.88x1.68mm, IPC High Density)
footprint LT-MS8E-8-1880X1680TP_M (SOP, 8-Leads, Body 3.1x3.1mm, Pitch 0.65mm, Thermal Pad 1.88x1.68mm, IPC Low Density)
pins: 1 NTCBIAS "NTC Bias Pin. Connect a resistor from NTCBIAS to NTC, and a thermistor from NTC to GND. Float NTCBIAS when not in use. Minimize parasitic capacitance on this pin.", 2 NTC (in) "Input to the Negative Temperature Coefficient Thermistor Monitoring Circuit. The NTC pin connects to a negative temperature coefficient thermistor which is typically co-packaged with the battery to determine the temperature (See Datasheet)", 3 ADJ (in) "Float Voltage Adjust Pin. Connect ADJ to GND to program 4.0V float voltage. Disconnect ADJ to program 4.1V float voltage. Connect ADJ to VCC to program 4.2V float voltage. The float voltage is also adjusted by the NTC (See Datasheet)", 4 HBO (out) "High Battery Monitor Output (Active High). HBO is a CMOS output that indicates that the battery is almost fully charged and current is being shunted away from BAT. This pin is driven high when VCC rises to within VHBTH of (See Datasheet)", 5 LBSEL (in) "Low Battery Disconnect Select Pin. Connect LBSEL to GND to select a low battery disconnect level of 3.2V, connect LBSEL to VCC to select a low battery disconnect level of 2.7V. Do not float.", 6 GND (power) "Ground. The exposed package pad has no internal electrical connection but must be connected to PCB ground for maximum heat transfer.", 7 BAT (power) "Battery Pin. Battery charge current is sourced from VCC through this pin when an external supply is present. BAT supplies current to VCC from this pin when no other source of power is available. If BAT falls below VLBD this (See Datasheet)", 8 VCC (power) "Input Supply Pin. Attach system load to this pin. The input supply voltage is regulated to 4.0V, 4.1V, or 4.2V depending on the ADJ pin state (see the ADJ pin description for more detail). This pin can sink up to 50mA in (See Datasheet)", 9 EP (power) "Ground. The exposed package pad has no internal electrical connection but must be connected to PCB ground for maximum heat transfer."

## LTC4071IDDB#PBF
designator U?
Li-Ion / Polymer Shunt Battery Charger System with Low Battery Disconnect, 8-pin SON (DDB-8), -40 to 125 degC, Pb-Free; Manufacturer: Linear Technology; PartNumber: LTC4071IDDB#PBF; Number of Outputs: 1; DatasheetVersion: Rev. C; PackageVersion: Rev. B, 06/2010; PackageReference: DDB-8; PackageDescription: 8-Pin Plastic DFN, Body 3 x 2 mm, Pitch 0.5 mm; RoHS: TRUE; Topology: Shunt Battery Charger; Mounting Technology: Surface Mount; Code_JEDEC: MO-229; ComponentLink1Description: Manufacturer URL; ComponentLink1URL: http://www.linear.com/; ComponentLink2Description: Datasheet; ComponentLink2URL: http://cds.linear.com/docs/en/datasheet/4071fc.pdf; ComponentLink3Description: Package Specification; ComponentLink3URL: http://cds.linear.com/docs/en/packaging/DFN_8_05-08-1702.pdf
footprint LT-DDB-8_V (SON, 8-Leads, Body 3x2mm, Pitch 0.5mm, Thermal Pad 2.2x0.61mm)
pins: 1 NTCBIAS "NTC Bias Pin. Connect a resistor from NTCBIAS to NTC, and a thermistor from NTC to GND. Float NTCBIAS when not in use. Minimize parasitic capacitance on this pin.", 2 NTC (in) "Input to the Negative Temperature Coefficient Thermistor Monitoring Circuit. The NTC pin connects to a negative temperature coefficient thermistor which is typically co-packaged with the battery to determine the temperature (See Datasheet)", 3 ADJ (in) "Float Voltage Adjust Pin. Connect ADJ to GND to program 4.0V float voltage. Disconnect ADJ to program 4.1V float voltage. Connect ADJ to VCC to program 4.2V float voltage. The float voltage is also adjusted by the NTC (See Datasheet)", 4 HBO (out) "High Battery Monitor Output (Active High). HBO is a CMOS output that indicates that the battery is almost fully charged and current is being shunted away from BAT. This pin is driven high when VCC rises to within VHBTH of (See Datasheet)", 5 LBSEL (in) "Low Battery Disconnect Select Pin. Connect LBSEL to GND to select a low battery disconnect level of 3.2V, connect LBSEL to VCC to select a low battery disconnect level of 2.7V. Do not float.", 6 GND (power) "Ground. The exposed package pad has no internal electrical connection but must be connected to PCB ground for maximum heat transfer.", 7 BAT (power) "Battery Pin. Battery charge current is sourced from VCC through this pin when an external supply is present. BAT supplies current to VCC from this pin when no other source of power is available. If BAT falls below VLBD this (See Datasheet)", 8 VCC (power) "Input Supply Pin. Attach system load to this pin. The input supply voltage is regulated to 4.0V, 4.1V, or 4.2V depending on the ADJ pin state (see the ADJ pin description for more detail). This pin can sink up to 50mA in (See Datasheet)", 9 EP (power) "Ground. The exposed package pad has no internal electrical connection but must be connected to PCB ground for maximum heat transfer."